# Altium footprint library WE-SD.PcbLib: 12 footprints
Each footprint in its own frame and in the unit in brackets; x right, y up, seen from the top. Pads: shape width x height; smd on the part's side, far side on the other; paste and mask are expansions set on the pad; w line width, h text height; cw(c..) or ccw(c..) is an arc to the next point about the centre after c.
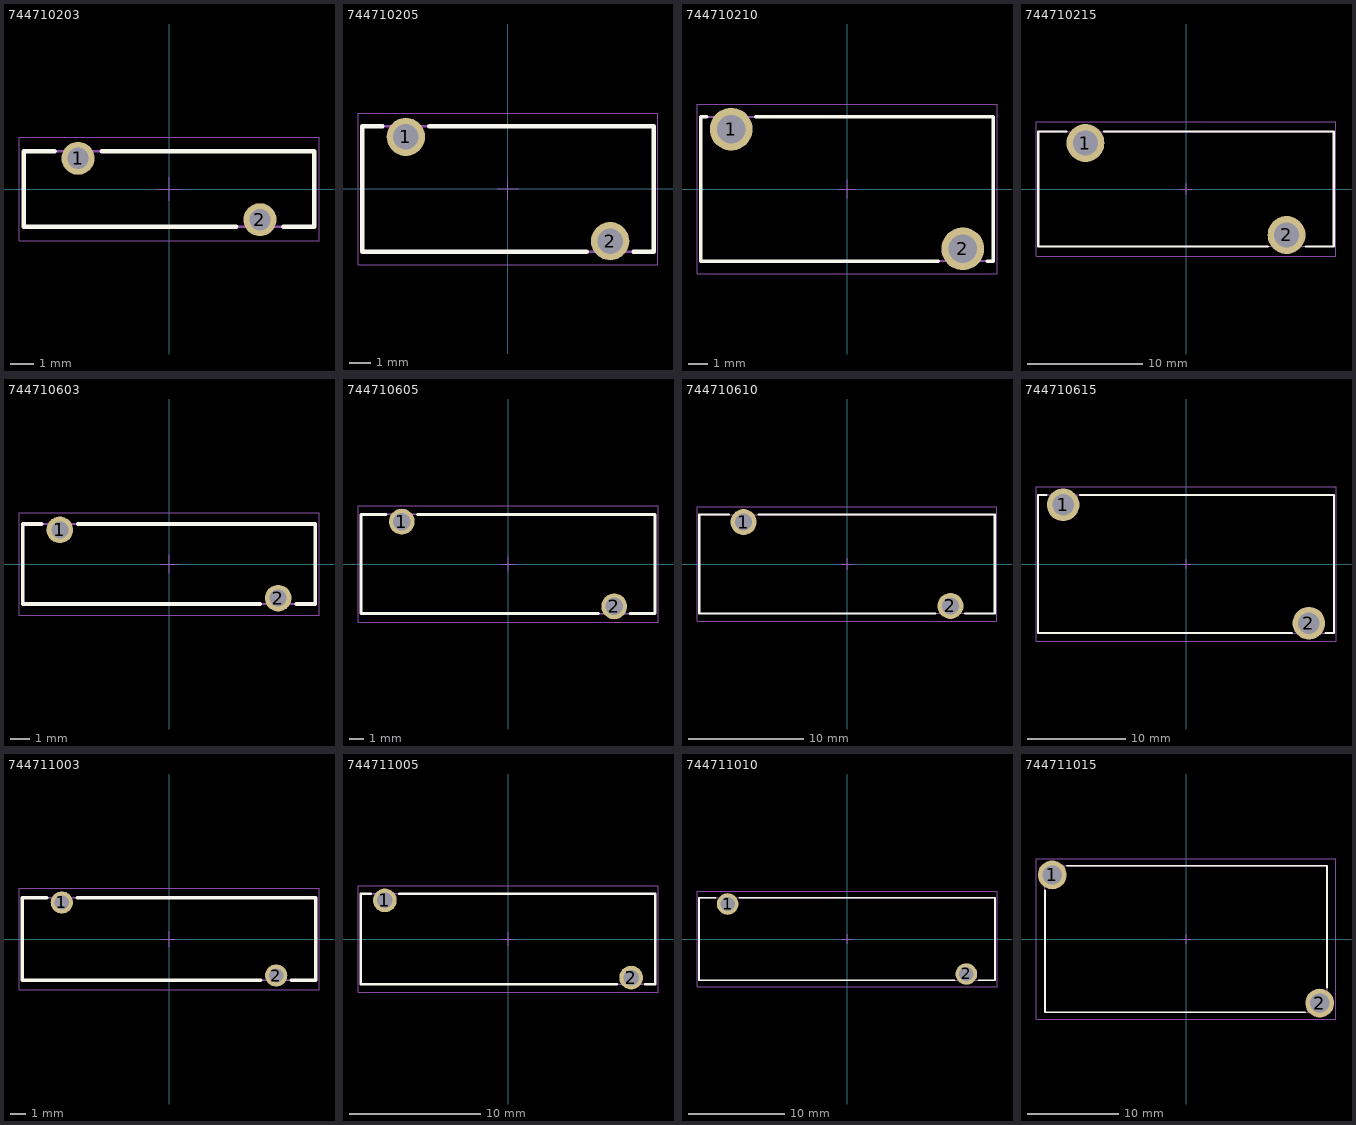
[diagram p0: the footprints below, top view; thin cyan lines are the x and y axes]

## 744710203 [mm] "Rod Core Choke, THT, 2-leads"
height 3.2
pads (2):
  round 1.4 hole 0.9: 1(-3.85,1.3) 2(3.85,-1.3)
Top Overlay:
  lines w0.2: -6.15,-1.6 -6.15,1.6 ; -6.15,-1.6 2.85,-1.6 ; -6.15,1.6 -4.85,1.6 ; -2.85,1.6 6.15,1.6 6.15,-1.6 4.85,-1.6
Top Designator:
  text ".Designator" at -7.498,-0.5 h1.5
Top Component Outline:
  lines w0.1: -6.15,-1.6 6.15,-1.6 6.15,1.6 -6.15,1.6 -6.15,-1.6
Top 3D Body:
  lines w0.1: -6.15,-1.6 -6.15,1.6 6.15,1.6 6.15,-1.6 -6.15,-1.6
Top Courtyard:
  lines w0.05: -0.5,0 0.5,0 ; 0,-0.5 0,0.5 ; -6.35,-2.2 6.35,-2.2 6.35,2.2 -6.35,2.2 -6.35,-2.2
3D body "744710203.stp": height 3.2, standoff -2.9, extent -6,-1.551 6,1.549

## 744710205 [mm] "Rod Core Choke, THT, 2-leads"
height 5.9
pads (2):
  round 1.8 hole 1.2: 1(-4.8,2.45) 2(4.8,-2.45)
Top Overlay:
  lines w0.2: -5.9,2.95 -6.85,2.95 -6.85,-2.95 3.7,-2.95 ; -3.7,2.95 6.85,2.95 6.85,-2.95 5.9,-2.95
Top Designator:
  text ".Designator" at -7.498,-0.5 h1.5
Top Component Outline:
  lines w0.1: -6.85,-2.95 -6.85,2.95 6.85,2.95 6.85,-2.95 -6.85,-2.95
Top 3D Body:
  lines w0.1: -6.85,-2.95 6.85,-2.95 6.85,2.95 -6.85,2.95 -6.85,-2.95
Top Courtyard:
  lines w0.05: -0.5,0 0.5,0 ; 0,-0.5 0,0.5 ; -7.05,-3.55 7.05,-3.55 7.05,3.55 -7.05,3.55 -7.05,-3.55
3D body "744710205.stp": height 5.85, standoff -2.85, extent -6.85,-2.851 6.85,2.849

## 744710210 [mm] "Rod Core Choke, THT, 2-leads"
height 7.6
pads (2):
  round 2.25 hole 1.5: 1(-6.1,3.15) 2(6.1,-3.15)
Top Overlay:
  lines w0.2: -7.4,3.8 -7.7,3.8 -7.7,-3.8 4.8,-3.8 ; -4.8,3.8 7.7,3.8 7.7,-3.8 7.4,-3.8
Top Designator:
  text ".Designator" at -7.498,-0.5 h1.5
Top Component Outline:
  lines w0.1: -7.7,-3.8 -7.7,3.8 7.7,3.8 7.7,-3.8 -7.7,-3.8
Top 3D Body:
  lines w0.1: -7.7,-3.8 7.7,-3.8 7.7,3.8 -7.7,3.8 -7.7,-3.8
Top Courtyard:
  lines w0.05: -0.5,0 0.5,0 ; 0,-0.5 0,0.5 ; -7.9,-4.475 7.9,-4.475 7.9,4.475 -7.9,4.475 -7.9,-4.475
3D body "744710210.stp": height 7.56, standoff -2.86, extent -7.7,-3.711 7.7,3.709

## 744710215 [mm] "Rod Core Choke, THT, 2-leads"
height 10
pads (2):
  round 3.3 hole 2.2: 1(-8.75,4) 2(8.75,-4)
Top Overlay:
  lines w0.2: -10.4,5 -12.85,5 -12.85,-5 7.1,-5 ; -7.1,5 12.85,5 12.85,-5 10.4,-5
Top Designator:
  text ".Designator" at -7.498,-0.5 h1.5
Top Component Outline:
  lines w0.1: -12.85,-5 -12.85,5 12.85,5 12.85,-5 -12.85,-5
Top 3D Body:
  lines w0.1: -12.85,-5 12.85,-5 12.85,5 -12.85,5 -12.85,-5
Top Courtyard:
  lines w0.05: -0.5,0 0.5,0 ; 0,-0.5 0,0.5 ; -13.05,-5.85 -13.05,5.85 13.05,5.85 13.05,-5.85 -13.05,-5.85
3D body "744710215.stp": height 10.3, standoff -2.51, extent -12.5,-4.901 12.5,4.899

## 744710603 [mm] "Rod Core Choke, THT, 2-leads"
height 4.2
pads (2):
  round 1.4 hole 0.9: 1(-5.75,1.8) 2(5.75,-1.8)
Top Overlay:
  lines w0.2: -6.7,2.1 -7.7,2.1 -7.7,-2.1 4.8,-2.1 ; -4.8,2.1 7.7,2.1 7.7,-2.1 6.7,-2.1
Top Designator:
  text ".Designator" at -7.498,-0.5 h1.5
Top Component Outline:
  lines w0.1: -7.7,-2.1 7.7,-2.1 7.7,2.1 -7.7,2.1 -7.7,-2.1
Top 3D Body:
  lines w0.1: -7.7,-2.1 -7.7,2.1 7.7,2.1 7.7,-2.1 -7.7,-2.1
Top Courtyard:
  lines w0.05: -0.5,0 0.5,0 ; 0,-0.5 0,0.5 ; -7.9,-2.7 -7.9,2.7 7.9,2.7 7.9,-2.7 -7.9,-2.7
3D body "744710603.stp": height 4.2, standoff -2.9, extent -7.5,-2.05 7.5,2.05

## 744710605 [mm] "Rod Core Choke, THT, 2-leads"
height 6.9
pads (2):
  round 1.8 hole 1.2: 1(-7.4,2.95) 2(7.4,-2.95)
Top Overlay:
  lines w0.2: -8.5,3.45 -10.25,3.45 -10.25,-3.45 6.3,-3.45 ; -6.3,3.45 10.25,3.45 10.25,-3.45 8.5,-3.45
Top Designator:
  text ".Designator" at -7.498,-0.5 h1.5
Top Component Outline:
  lines w0.1: -10.25,-3.45 -10.25,3.45 10.25,3.45 10.25,-3.45 -10.25,-3.45
Top 3D Body:
  lines w0.1: -10.25,-3.45 10.25,-3.45 10.25,3.45 -10.25,3.45 -10.25,-3.45
Top Courtyard:
  lines w0.05: -0.5,0 0.5,0 ; 0,-0.5 0,0.5 ; -10.45,-4.05 10.45,-4.05 10.45,4.05 -10.45,4.05 -10.45,-4.05
3D body "744710605.stp": height 6.85, standoff -2.85, extent -10,-3.35 10,3.35

## 744710610 [mm] "Rod Core Choke, THT, 2-leads"
height 8.6
pads (2):
  round 2.25 hole 1.5: 1(-9,3.65) 2(9,-3.65)
Top Overlay:
  lines w0.2: -10.3,4.3 -12.85,4.3 -12.85,-4.3 7.7,-4.3 ; -7.7,4.3 12.85,4.3 12.85,-4.3 10.3,-4.3
Top Designator:
  text ".Designator" at -7.498,-0.5 h1.5
Top Component Outline:
  lines w0.1: -12.85,-4.3 12.85,-4.3 12.85,4.3 -12.85,4.3 -12.85,-4.3
Top 3D Body:
  lines w0.1: -12.85,-4.3 -12.85,4.3 12.85,4.3 12.85,-4.3 -12.85,-4.3
Top Courtyard:
  lines w0.05: -0.5,0 0.5,0 ; 0,-0.5 0,0.5 ; -13.05,-4.975 13.05,-4.975 13.05,4.975 -13.05,4.975 -13.05,-4.975
3D body "744710610.stp": height 8.56, standoff -2.85, extent -12.5,-4.21 12.5,4.209

## 744710615 [mm] "Rod Core Choke, THT, 2-leads"
height 14
pads (2):
  round 3.3 hole 2.2: 1(-12.45,6) 2(12.45,-6)
Top Overlay:
  lines w0.2: -14.15,7 -15,7 -15,-7 10.75,-7 ; -10.75,7 15,7 15,-7 14.15,-7
Top Designator:
  text ".Designator" at -7.498,-0.5 h1.5
Top Component Outline:
  lines w0.1: -15,-7 15,-7 15,7 -15,7 -15,-7
Top 3D Body:
  lines w0.1: -15,-7 -15,7 15,7 15,-7 -15,-7
Top Courtyard:
  lines w0.05: -0.5,0 0.5,0 ; 0,-0.5 0,0.5 ; -15.2,-7.85 15.2,-7.85 15.2,7.85 -15.2,7.85 -15.2,-7.85
3D body "744710615.stp": height 14.5, standoff -2.3, extent -15,-6.903 15,6.897

## 744711003 [mm] "Rod Core Choke, THT, 2-leads"
height 5.2
pads (2):
  round 1.4 hole 0.9: 1(-6.75,2.3) 2(6.75,-2.3)
Top Overlay:
  lines w0.2: -7.7,2.6 -9.25,2.6 -9.25,-2.6 5.8,-2.6 ; -5.8,2.6 9.25,2.6 9.25,-2.6 7.7,-2.6
Top Designator:
  text ".Designator" at -7.498,-0.5 h1.5
Top Component Outline:
  lines w0.1: -9.25,-2.6 9.25,-2.6 9.25,2.6 -9.25,2.6 -9.25,-2.6
Top 3D Body:
  lines w0.1: -9.25,-2.6 -9.25,2.6 9.25,2.6 9.25,-2.6 -9.25,-2.6
Top Courtyard:
  lines w0.05: -0.5,0 0.5,0 ; 0,-0.5 0,0.5 ; -9.45,-3.2 9.45,-3.2 9.45,3.2 -9.45,3.2 -9.45,-3.2
3D body "744711003.stp": height 5.2, standoff -2.9, extent -9,-2.55 9,2.55

## 744711005 [mm] "Rod Core Choke, THT, 2-leads"
height 6.9
pads (2):
  round 1.8 hole 1.2: 1(-9.4,2.95) 2(9.4,-2.95)
Top Overlay:
  lines w0.2: -10.5,3.45 -11.25,3.45 -11.25,-3.45 8.3,-3.45 ; -8.3,3.45 11.25,3.45 11.25,-3.45 10.5,-3.45
Top Designator:
  text ".Designator" at -7.498,-0.5 h1.5
Top Component Outline:
  lines w0.1: -11.25,-3.45 -11.25,3.45 11.25,3.45 11.25,-3.45 -11.25,-3.45
Top 3D Body:
  lines w0.1: -11.25,-3.45 11.25,-3.45 11.25,3.45 -11.25,3.45 -11.25,-3.45
Top Courtyard:
  lines w0.05: -0.5,0 0.5,0 ; 0,-0.5 0,0.5 ; -11.45,-4.05 -11.45,4.05 11.45,4.05 11.45,-4.05 -11.45,-4.05
3D body "744711005.stp": height 6.85, standoff -2.85, extent -11,-3.35 11,3.35

## 744711010 [mm] "Rod Core Choke, THT, 2-leads"
height 8.6
pads (2):
  round 2.25 hole 1.5: 1(-12.45,3.65) 2(12.45,-3.65)
Top Overlay:
  lines w0.2: -13.7,4.3 -15.45,4.3 -15.45,-4.3 11.2,-4.3 ; -11.2,4.3 15.45,4.3 15.45,-4.3 13.7,-4.3
Top Designator:
  text ".Designator" at -7.498,-0.5 h1.5
Top Component Outline:
  lines w0.1: -15.45,-4.3 -15.45,4.3 15.45,4.3 15.45,-4.3 -15.45,-4.3
Top 3D Body:
  lines w0.1: -15.45,-4.3 15.45,-4.3 15.45,4.3 -15.45,4.3 -15.45,-4.3
Top Courtyard:
  lines w0.05: -0.5,0 0.5,0 ; 0,-0.5 0,0.5 ; -15.65,-4.975 15.65,-4.975 15.65,4.975 -15.65,4.975 -15.65,-4.975
3D body "744711010.stp": height 8.76, standoff -2.65, extent -15,-4.21 15,4.21

## 744711015 [mm] "Rod Core Choke, THT, 2-leads"
height 16
pads (2):
  round 3.15 hole 2.1: 1(-14.6,7) 2(14.6,-7)
Top Overlay:
  lines w0.2: -15.4,5.3 -15.4,-8 13,-8 ; -13,8 15.4,8 15.4,-5.3
Top Designator:
  text ".Designator" at -7.498,-0.5 h1.5
Top Component Outline:
  lines w0.1: -15.4,-8 15.4,-8 15.4,8 -15.4,8 -15.4,-8
Top 3D Body:
  lines w0.1: -15.4,-8 -15.4,8 15.4,8 15.4,-8 -15.4,-8
Top Courtyard:
  lines w0.05: -0.5,0 0.5,0 ; 0,-0.5 0,0.5 ; -16.375,-8.775 16.375,-8.775 16.375,8.775 -16.375,8.775 -16.375,-8.775
3D body "744711015.stp": height 16.25, standoff -2.45, extent -15.45,-7.851 15.45,7.849